# EAGLE library part NUMERIC_DISPLAY (library MINE)
SA23-12SRWA single digit numeric display
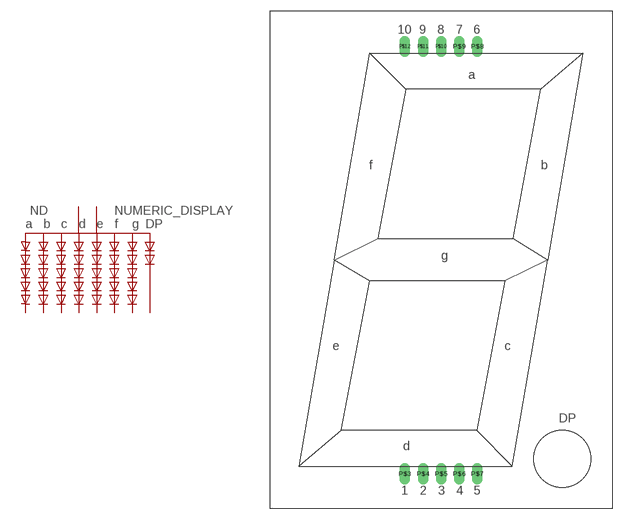
[diagram p0: symbol with the pads of NUMERIC_DISPLAY; footprint NUMERIC_DISPLAY]

Designator prefix ND

## NUMERIC_DISPLAY  [NUMERIC_DISPLAY]
P$3  P$1
P$4  P$2
P$5  P$3
P$6  P$4
P$7  P$5
P$8  P$6
P$9  P$7
P$10  P$8
P$11  P$9
P$12  P$10

## Footprint NUMERIC_DISPLAY (pad centres in mm)
drill 1 long: P$3 -5.08,-30.08; P$4 -2.54,-30.08; P$5 0,-30.08; P$6 2.54,-30.08; P$7 5.08,-30.08; P$8 5.08,29.98; P$9 2.54,29.98; P$10 0,29.98; P$11 -2.54,29.98; P$12 -5.08,29.98